# Altium schematic symbol library STM32F103RCT6.SchLib: 1 symbol
Pins are listed as number, name and electrical type; pins without a type are passive.

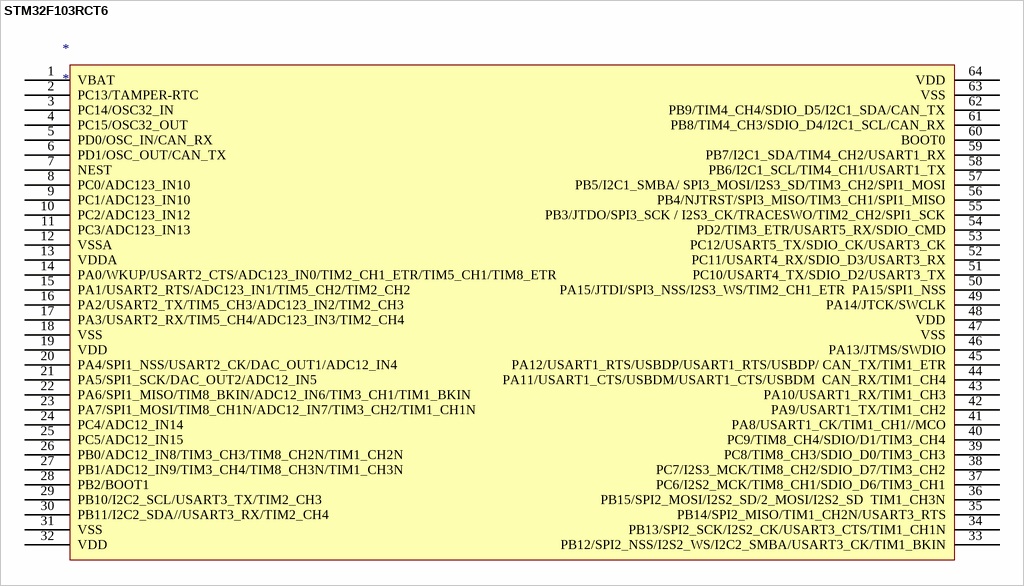
[diagram p0: symbol STM32F103RCT6]

## STM32F103RCT6
designator *
pins: 1 VBAT (power), 2 PC13/TAMPER-RTC (power), 3 PC14/OSC32_IN (power), 4 PC15/OSC32_OUT (power), 5 PD0/OSC_IN/CAN_RX (power) "LQFP64封装的引脚5和引脚6在芯片复位后默认配置为OSC_IN和OSC_OUT功能脚。软件可以重新设置这两个  引脚为PD0和PD1功能。", 6 PD1/OSC_OUT/CAN_TX (power) "LQFP64封装的引脚5和引脚6在芯片复位后默认配置为OSC_IN和OSC_OUT功能脚。软件可以重新设置这两个  引脚为PD0和PD1功能。", 7 NEST (power) "LQFP64封装的引脚5和引脚6在芯片复位后默认配置为OSC_IN和OSC_OUT功能脚。软件可以重新设置这两个  引脚为PD0和PD1功能。", 8 PC0/ADC123_IN10 (power) "LQFP64封装的引脚5和引脚6在芯片复位后默认配置为OSC_IN和OSC_OUT功能脚。软件可以重新设置这两个  引脚为PD0和PD1功能。", 9 PC1/ADC123_IN10 (power) "LQFP64封装的引脚5和引脚6在芯片复位后默认配置为OSC_IN和OSC_OUT功能脚。软件可以重新设置这两个  引脚为PD0和PD1功能。", 10 PC2/ADC123_IN12 (power) "LQFP64封装的引脚5和引脚6在芯片复位后默认配置为OSC_IN和OSC_OUT功能脚。软件可以重新设置这两个  引脚为PD0和PD1功能。", 11 PC3/ADC123_IN13 (power) "LQFP64封装的引脚5和引脚6在芯片复位后默认配置为OSC_IN和OSC_OUT功能脚。软件可以重新设置这两个  引脚为PD0和PD1功能。", 12 VSSA (power) "LQFP64封装的引脚5和引脚6在芯片复位后默认配置为OSC_IN和OSC_OUT功能脚。软件可以重新设置这两个  引脚为PD0和PD1功能。", 13 VDDA (power) "LQFP64封装的引脚5和引脚6在芯片复位后默认配置为OSC_IN和OSC_OUT功能脚。软件可以重新设置这两个  引脚为PD0和PD1功能。", 14 PA0/WKUP/USART2_CTS/ADC123_IN0/TIM2_CH1_ETR/TIM5_CH1/TIM8_ETR (power), 15 PA1/USART2_RTS/ADC123_IN1/TIM5_CH2/TIM2_CH2 (power), 16 PA2/USART2_TX/TIM5_CH3/ADC123_IN2/TIM2_CH3 (power), 17 PA3/USART2_RX/TIM5_CH4/ADC123_IN3/TIM2_CH4 (power), 18 VSS (power), 19 VDD (power), 20 PA4/SPI1_NSS/USART2_CK/DAC_OUT1/ADC12_IN4 (power), 21 PA5/SPI1_SCK/DAC_OUT2/ADC12_IN5 (power), 22 PA6/SPI1_MISO/TIM8_BKIN/ADC12_IN6/TIM3_CH1/TIM1_BKIN (power), 23 PA7/SPI1_MOSI/TIM8_CH1N/ADC12_IN7/TIM3_CH2/TIM1_CH1N (power), 24 PC4/ADC12_IN14 (power), 25 PC5/ADC12_IN15 (power), 26 PB0/ADC12_IN8/TIM3_CH3/TIM8_CH2N/TIM1_CH2N (power), 27 PB1/ADC12_IN9/TIM3_CH4/TIM8_CH3N/TIM1_CH3N (power), 28 PB2/BOOT1 (power), 29 PB10/I2C2_SCL/USART3_TX/TIM2_CH3 (power), 30 PB11/I2C2_SDA//USART3_RX/TIM2_CH4 (power), 31 VSS (power), 32 VDD (power), 33 PB12/SPI2_NSS/I2S2_WS/I2C2_SMBA/USART3_CK/TIM1_BKIN (power), 34 PB13/SPI2_SCK/I2S2_CK/USART3_CTS/TIM1_CH1N (power), 35 PB14/SPI2_MISO/TIM1_CH2N/USART3_RTS (power), 36 PB15/SPI2_MOSI/I2S2_SD/2_MOSI/I2S2_SD  TIM1_CH3N (power), 37 PC6/I2S2_MCK/TIM8_CH1/SDIO_D6/TIM3_CH1 (power), 38 PC7/I2S3_MCK/TIM8_CH2/SDIO_D7/TIM3_CH2 (power), 39 PC8/TIM8_CH3/SDIO_D0/TIM3_CH3 (power), 40 PC9/TIM8_CH4/SDIO/D1/TIM3_CH4 (power), 41 PA8/USART1_CK/TIM1_CH1//MCO (power), 42 PA9/USART1_TX/TIM1_CH2 (power), 43 PA10/USART1_RX/TIM1_CH3 (power), 44 PA11/USART1_CTS/USBDM/USART1_CTS/USBDM  CAN_RX/TIM1_CH4 (power), 45 PA12/USART1_RTS/USBDP/USART1_RTS/USBDP/ CAN_TX/TIM1_ETR (power), 46 PA13/JTMS/SWDIO (power), 47 VSS (power), 48 VDD (power), 49 PA14/JTCK/SWCLK (power), 50 PA15/JTDI/SPI3_NSS/I2S3_WS/TIM2_CH1_ETR  PA15/SPI1_NSS (power), 51 PC10/USART4_TX/SDIO_D2/USART3_TX (power), 52 PC11/USART4_RX/SDIO_D3/USART3_RX (power), 53 PC12/USART5_TX/SDIO_CK/USART3_CK (power), 54 PD2/TIM3_ETR/USART5_RX/SDIO_CMD (power), 55 PB3/JTDO/SPI3_SCK / I2S3_CK/TRACESWO/TIM2_CH2/SPI1_SCK (power), 56 PB4/NJTRST/SPI3_MISO/TIM3_CH1/SPI1_MISO (power), 57 PB5/I2C1_SMBA/ SPI3_MOSI/I2S3_SD/TIM3_CH2/SPI1_MOSI (power), 58 PB6/I2C1_SCL/TIM4_CH1/USART1_TX (power), 59 PB7/I2C1_SDA/TIM4_CH2/USART1_RX (power), 60 BOOT0 (power), 61 PB8/TIM4_CH3/SDIO_D4/I2C1_SCL/CAN_RX (power), 62 PB9/TIM4_CH4/SDIO_D5/I2C1_SDA/CAN_TX (power), 63 VSS (power), 64 VDD (power)